# Altium schematic symbol library ADXL213.Schlib: 1 symbol
Pins are listed as number, name and electrical type; pins without a type are passive.

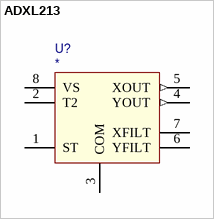
[diagram p0: symbol ADXL213]

## ADXL213
designator U?
pins: 1 ST, 2 T2, 3 COM, 4 YOUT (out), 5 XOUT (out), 6 YFILT, 7 XFILT, 8 VS (power)
1 alternate drawing of the same symbol